# Altium footprint library CAPS.PcbLib: 166 footprints (part 3 of 11)
Each footprint in its own frame and in the unit in brackets; x right, y up, seen from the top. Pads: shape width x height; smd on the part's side, far side on the other; paste and mask are expansions set on the pad; w line width, h text height; cw(c..) or ccw(c..) is an arc to the next point about the centre after c.
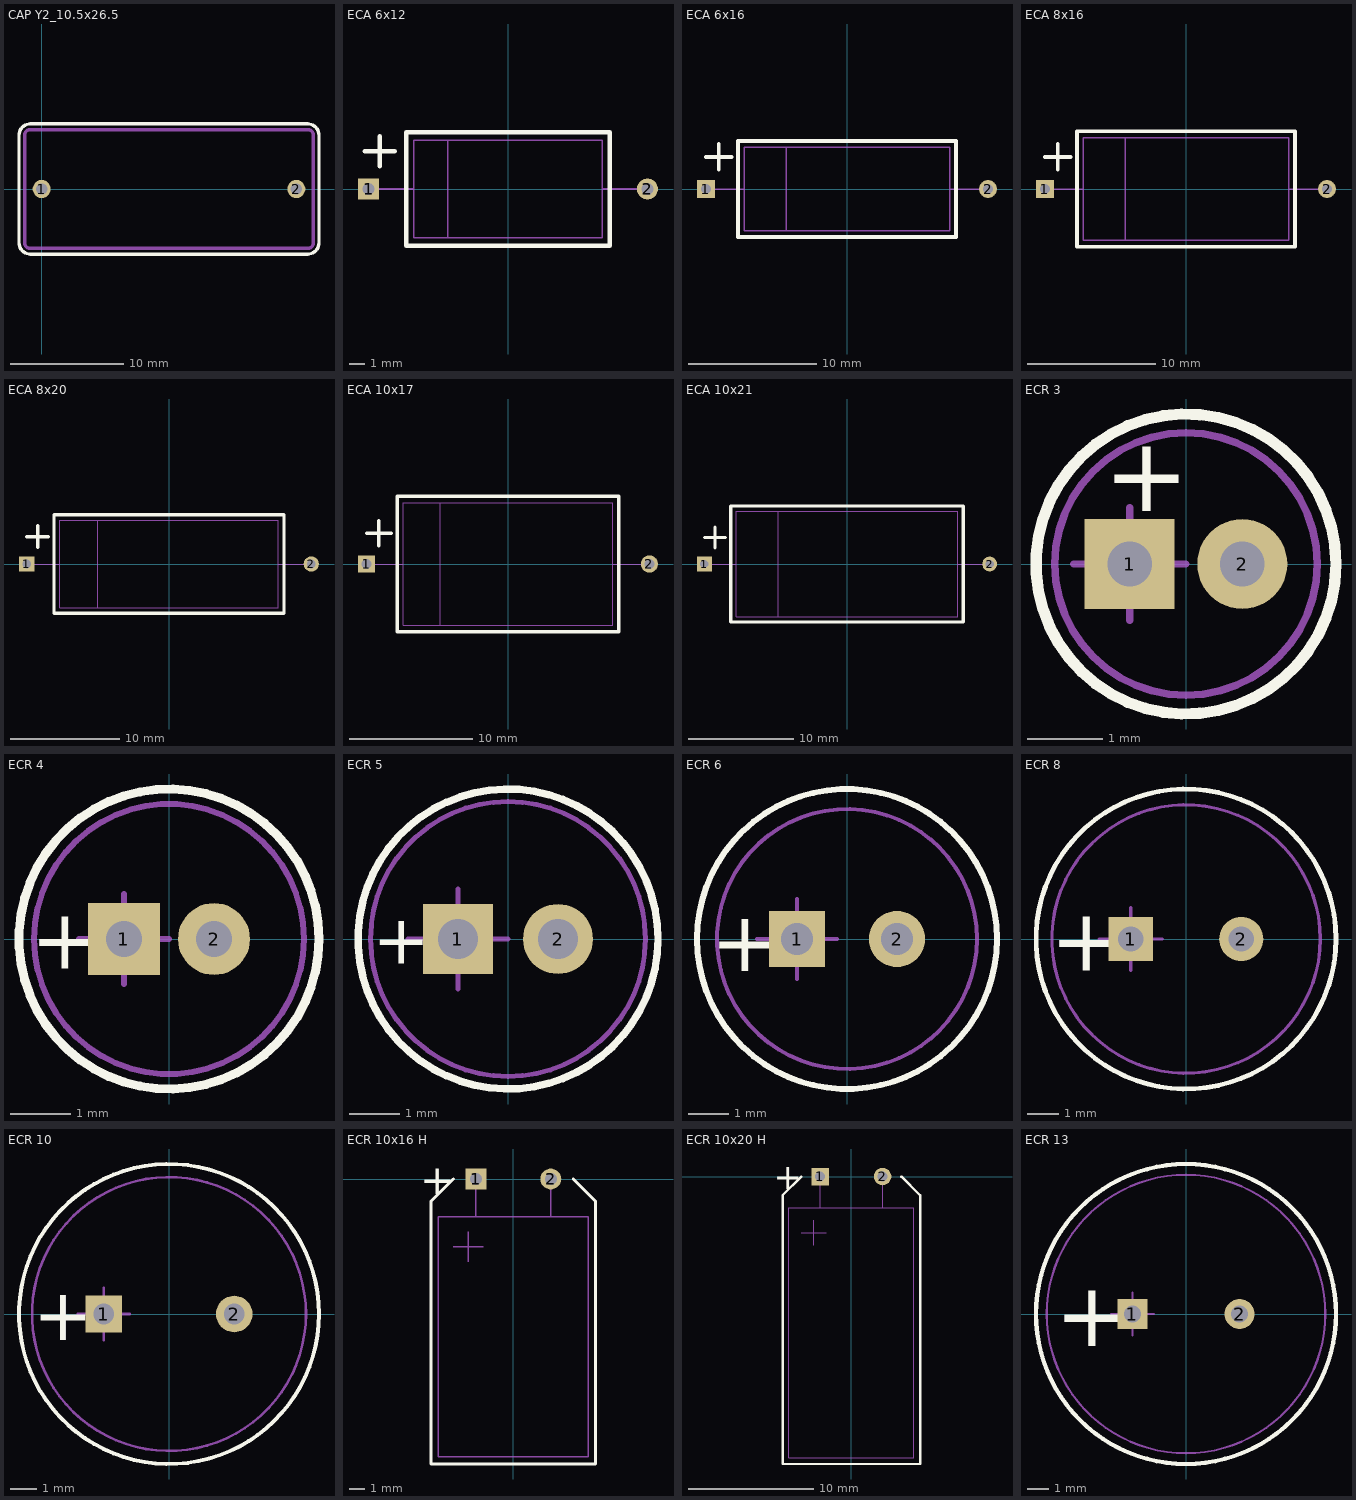
[diagram p2: the footprints below, top view; thin cyan lines are the x and y axes]

## CAP Y2_10.5x26.5 [mm]
pads (2):
  round 1.6 hole 1: 1(0,0) 2(22.5,0)
Top Overlay:
  lines w0.3: -2,-4.75 ccw(c-1,-4.75) -1,-5.75 23.5,-5.75 ccw(c23.5,-4.75) 24.5,-4.75 24.5,4.75 ccw(c23.5,4.75) 23.5,5.75 -1,5.75 ccw(c-1,4.75) -2,4.75 -2,-4.75
Mechanical 1:
  lines w0.3: -1.5,-4.75 ccw(c-1,-4.75) -1,-5.25 23.5,-5.25 ccw(c23.5,-4.75) 24,-4.75 24,4.75 ccw(c23.5,4.75) 23.5,5.25 -1,5.25 ccw(c-1,4.75) -1.5,4.75 -1.5,-4.75

## ECA 6x12 [mm]
height 7.3
pads (2):
  rect 1.4x1.4 hole 0.8: 1(-9.25,0)
  round 1.4 hole 0.8: 2(9.25,0)
Top Overlay:
  lines w0.3: -9.5,2.5 -7.5,2.5 ; -8.5,1.5 -8.5,3.5 ; -6.75,-3.75 6.75,-3.75 6.75,3.75 -6.75,3.75 -6.75,-3.75
Mechanical 1:
  lines w0.1: -9.25,0 -6.25,0 ; -4,-3.25 -4,3.25 ; 6.25,0 9.25,0 ; -6.25,-3.25 6.25,-3.25 6.25,3.25 -6.25,3.25 -6.25,-3.25
3D body: height 6.13, standoff 0.35, extent -5,-2.885 -3,2.903
3D body: height 6.47, standoff 0, extent -3.5,-3.237 6.25,3.25
3D body: height 6.47, standoff 0, extent -6.25,-3.237 -4.5,3.25

## ECA 6x16 [mm]
height 7.3
pads (2):
  rect 1.4x1.4 hole 0.8: 1(-11,0)
  round 1.4 hole 0.8: 2(11,0)
Top Overlay:
  lines w0.3: -11,2.5 -9,2.5 ; -10,1.5 -10,3.5 ; -8.5,-3.75 -8.5,3.75 8.5,3.75 8.5,-3.75 -8.5,-3.75
Mechanical 1:
  lines w0.1: -11,0 -8,0 ; -4.75,-3.25 -4.75,3.25 ; 8,0 11,0 ; -8,-3.25 -8,3.25 8,3.25 8,-3.25 -8,-3.25
3D body: height 6.47, standoff 0, extent -8,-3.244 -5.25,3.244
3D body: height 6.47, standoff 0, extent -4.25,-3.237 8,3.25
3D body: height 6.08, standoff 0.3, extent -5.75,-2.894 -3.75,2.894

## ECA 8x16 [mm]
height 9
pads (2):
  rect 1.4x1.4 hole 0.8: 1(-11,0)
  round 1.4 hole 0.8: 2(11,0)
Top Overlay:
  lines w0.3: -11,2.5 -9,2.5 ; -10,1.5 -10,3.5 ; -8.5,-4.5 -8.5,4.5 8.5,4.5 8.5,-4.5 -8.5,-4.5
Mechanical 1:
  lines w0.1: -11,0 -8,0 ; -4.75,-4 -4.75,4 ; 8,0 11,0 ; -8,-4 -8,4 8,4 8,-4 -8,-4
3D body: height 7.97, standoff 0, extent -8,-3.992 -5.25,3.992
3D body: height 7.97, standoff 0, extent -4.25,-3.986 8,3.999
3D body: height 7.57, standoff 0.4, extent -5.75,-3.593 -3.75,3.593

## ECA 8x20 [mm]
height 9
pads (2):
  rect 1.4x1.4 hole 0.8: 1(-13,0)
  round 1.4 hole 0.8: 2(13,0)
Top Overlay:
  lines w0.3: -13,2.5 -11,2.5 ; -12,1.5 -12,3.5 ; -10.5,-4.5 -10.5,4.5 10.5,4.5 10.5,-4.5 -10.5,-4.5
Mechanical 1:
  lines w0.1: -13,0 -10,0 ; -6.5,-4 -6.5,4 ; 10,0 13,0 ; -10,-4 -10,4 10,4 10,-4 -10,-4
3D body: height 7.57, standoff 0.4, extent -7.5,-3.593 -5.5,3.593
3D body: height 7.97, standoff 0, extent -10,-3.984 -7,4
3D body: height 7.97, standoff 0, extent -6,-3.984 10,4

## ECA 10x17 [mm]
height 11
pads (2):
  rect 1.4x1.4 hole 0.8: 1(-11.5,0)
  round 1.4 hole 0.8: 2(11.5,0)
Top Overlay:
  lines w0.3: -11.5,2.5 -9.5,2.5 ; -10.5,1.5 -10.5,3.5 ; -9,-5.5 -9,5.5 9,5.5 9,-5.5 -9,-5.5
Mechanical 1:
  lines w0.1: -11.5,0 -8.5,0 ; -5.5,-5 -5.5,5 ; 8.5,0 11.5,0 ; -8.5,-5 -8.5,5 8.5,5 8.5,-5 -8.5,-5
3D body: height 9.96, standoff 0, extent -8.5,-5 -6,4.98
3D body: height 9.96, standoff 0, extent -5,-4.98 8.5,5
3D body: height 9.71, standoff 0.75, extent -6.5,-4.491 -4.5,4.491

## ECA 10x21 [mm]
height 11
pads (2):
  rect 1.4x1.4 hole 0.8: 1(-13.5,0)
  round 1.4 hole 0.8: 2(13.5,0)
Top Overlay:
  lines w0.3: -13.5,2.5 -11.5,2.5 ; -12.5,1.5 -12.5,3.5 ; -11,-5.5 -11,5.5 11,5.5 11,-5.5 -11,-5.5
Mechanical 1:
  lines w0.1: -13.5,0 -10.5,0 ; -6.5,-5 -6.5,5 ; 10.5,0 13.5,0 ; -10.5,-5 -10.5,5 10.5,5 10.5,-5 -10.5,-5
3D body: height 9.96, standoff 0, extent -10.5,-4.98 -7,5
3D body: height 9.96, standoff 0, extent -6,-4.98 10.5,5
3D body: height 9.71, standoff 0.75, extent -7.5,-4.482 -5.5,4.5

## ECR 3 [mm]
height 11
pads (2):
  rect 1.2x1.2 hole 0.6: 1(-0.75,0)
  round 1.2 hole 0.6: 2(0.75,0)
Top Overlay:
  circle w0.15: c0,0 r2
  text "+" at -1.1,0.7 h1
Mechanical 1:
  circle w0.1: c0,0 r1.75
  lines w0.1: -1.5,0 0,0 ; -0.75,-0.75 -0.75,0.75
3D body: height 11, standoff 0, extent -1.5,-1.5 1.5,1.5

## ECR 4 [mm]
height 11
pads (2):
  rect 1.2x1.2 hole 0.6: 1(-0.75,0)
  round 1.2 hole 0.6: 2(0.75,0)
Top Overlay:
  circle w0.15: c0,0 r2.5
  text "+" at -2.3,-0.5 h1
Mechanical 1:
  circle w0.1: c0,0 r2.25
  lines w0.1: -1.5,0 0,0 ; -0.75,-0.75 -0.75,0.75
3D body: height 11, standoff 0, extent -2,-1.994 2,1.994

## ECR 5 [mm]
height 11
pads (2):
  rect 1.4x1.4 hole 0.8: 1(-1,0)
  round 1.4 hole 0.8: 2(1,0)
Top Overlay:
  circle w0.15: c0,0 r3
  text "+" at -2.7,-0.5 h1
Mechanical 1:
  circle w0.1: c0,0 r2.75
  lines w0.1: -2,0 0,0 ; -1,-1 -1,1
3D body: height 11, standoff 0, extent -2.494,-2.499 2.5,2.499

## ECR 6 [mm]
height 11
pads (2):
  rect 1.4x1.4 hole 0.8: 1(-1.25,0)
  round 1.4 hole 0.8: 2(1.25,0)
Top Overlay:
  circle w0.15: c0,0 r3.75
  text "+" at -3.4,-0.8 h1.5
Mechanical 1:
  circle w0.1: c0,0 r3.25
  lines w0.1: -2.25,0 -0.25,0 ; -1.25,-1 -1.25,1
3D body: height 11, standoff 0, extent -2.994,-2.999 3,2.999

## ECR 8 [mm]
height 11
pads (2):
  rect 1.4x1.4 hole 0.8: 1(-1.75,0)
  round 1.4 hole 0.8: 2(1.75,0)
Top Overlay:
  circle w0.15: c0,0 r4.75
  text "+" at -4.3,-1 h2
Mechanical 1:
  circle w0.1: c0,0 r4.25
  lines w0.1: -2.75,0 -0.75,0 ; -1.75,-1 -1.75,1
3D body: height 11, standoff 0, extent -3.994,-3.999 4,3.999

## ECR 10 [mm]
height 13
pads (2):
  rect 1.4x1.4 hole 0.8: 1(-2.5,0)
  round 1.4 hole 0.8: 2(2.5,0)
Top Overlay:
  circle w0.15: c0,0 r5.75
  text "+" at -5.2,-1 h2
Mechanical 1:
  circle w0.1: c0,0 r5.25
  lines w0.1: -3.5,0 -1.5,0 ; -2.5,-1 -2.5,1
3D body: height 13, standoff 0, extent -4.993,-4.998 5,4.998

## ECR 10x16 H [mm]
height 10
pads (2):
  rect 1.4x1.4 hole 0.8: 1(-2.5,0)
  round 1.4 hole 0.8: 2(2.5,0)
Top Overlay:
  lines w0.2: -4,0 -5.5,-1.5 -5.5,-19 5.5,-19 5.5,-1.5 4,0
  text "+" at -6.2,-1 h2
Mechanical 1:
  lines w0.1: -4,-4.5 -2,-4.5 ; -3,-5.5 -3,-3.5 ; -2.5,-2.5 -2.5,0 ; 2.5,-2.5 2.5,0 ; -5,-18.5 5,-18.5 5,-2.5 -5,-2.5 -5,-18.5
3D body: height 10, standoff 0, extent -5.002,-18.5 4.99,-2.5

## ECR 10x20 H [mm]
height 10
pads (2):
  rect 1.4x1.4 hole 0.8: 1(-2.5,0)
  round 1.4 hole 0.8: 2(2.5,0)
Top Overlay:
  lines w0.2: -4,0 -5.5,-1.5 -5.5,-23 5.5,-23 5.5,-1.5 4,0
  text "+" at -6.2,-1 h2
Mechanical 1:
  lines w0.1: -4,-4.5 -2,-4.5 ; -3,-5.5 -3,-3.5 ; -2.5,-2.5 -2.5,0 ; 2.5,-2.5 2.5,0 ; -5,-22.5 5,-22.5 5,-2.5 -5,-2.5 -5,-22.5
3D body: height 10, standoff 0, extent -5,-22.5 4.99,-2.5

## ECR 13 [mm]
pads (2):
  rect 1.4x1.4 hole 0.8: 1(-2.5,0)
  round 1.4 hole 0.8: 2(2.5,0)
Top Overlay:
  circle w0.2: c0,0 r7
  text "+" at -6.1,-1.5 h3
Mechanical 1:
  circle w0.1: c0,0 r6.5
  lines w0.1: -3.5,0 -1.5,0 ; -2.5,-1 -2.5,1
3D body: height 20, standoff 0, extent -6.5,-6.5 6.5,6.5